# EAGLE library part SI7013 (library Kas-Sensors)
Si7013 Humidity sensor ​Si7013 2nd Generation Relative Humidity and Temperature Sensors
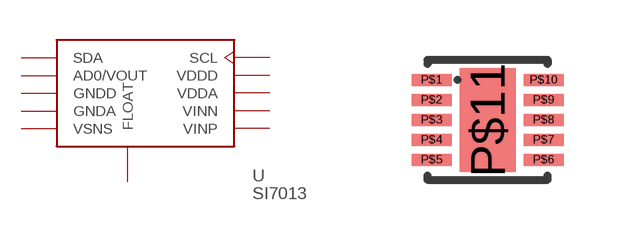
[diagram p17: symbol with the pads of DFN-10(3X3); footprint DFN-10(3X3)]

Designator prefix U

## SI7013  [DFN-10(3X3)]
P$1  SDA
P$2  AD0/VOUT
P$3  GNDD
P$4  GNDA
P$5  VSNS
P$6  VINP
P$7  VINN
P$8  VDDA
P$9  VDDD
P$10  SCL
P$11  FLOAT

## Footprint DFN-10(3X3) (pad centres in mm)
smd 1 x 0.3: P$1 -1.4,1; P$2 -1.4,0.5; P$3 -1.4,0; P$4 -1.4,-0.5; P$5 -1.4,-1; P$6 1.4,-1; P$7 1.4,-0.5; P$8 1.4,0; P$9 1.4,0.5; P$10 1.4,1
smd 1.4 x 2.6: P$11 0,0